# Altium footprint library TE 1318384_2.PcbLib: 1 footprints
Each footprint in its own frame and in the unit in brackets; x right, y up, seen from the top. Pads: shape width x height; smd on the part's side, far side on the other; paste and mask are expansions set on the pad; w line width, h text height; cw(c..) or ccw(c..) is an arc to the next point about the centre after c.
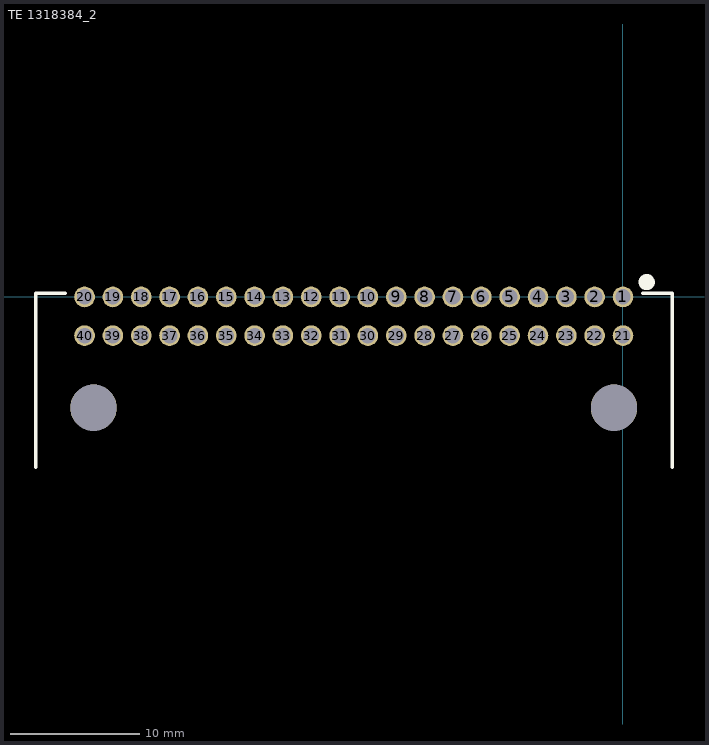
[diagram p0: the footprint, top view; thin cyan lines are the x and y axes]

## TE 1318384_2 [mm]
pads (42):
  round 1.6 hole 1.2: 1(0,0) 2(-2.2,0) 3(-4.4,0) 4(-6.6,0) 5(-8.8,0) 6(-11,0) 7(-13.2,0) 8(-15.4,0) 9(-17.6,0) 10(-19.8,0) 11(-22,0) 12(-24.2,0) 13(-26.4,0) 14(-28.6,0) 15(-30.8,0) 16(-33,0) 17(-35.2,0) 18(-37.4,0) 19(-39.6,0) 20(-41.8,0) 21(0,-3) 22(-2.2,-3) 23(-4.4,-3) 24(-6.6,-3) 25(-8.8,-3) 26(-11,-3) 27(-13.2,-3) 28(-15.4,-3) 29(-17.6,-3) 30(-19.8,-3) 31(-22,-3) 32(-24.2,-3) 33(-26.4,-3) 34(-28.6,-3) 35(-30.8,-3) 36(-33,-3) 37(-35.2,-3) 38(-37.4,-3) 39(-39.6,-3) 40(-41.8,-3)
  round 3.6 hole 3.6: ""(-41.1,-8.6) ""(-0.7,-8.6)
Top Overlay:
  lines w0.254: -45.582,-13.243 -45.582,0.29 -43.273,0.29 ; 1.51,0.29 3.818,0.29 3.818,-13.243
  lines w1: 1.919,1.253 ccw(c1.84,1.154) 1.959,1.197
3D body "c-1318384-2-f-3d.stp": height 15.6, standoff -3.9, extent -45.582,-24.18 3.818,0.29